# Altium schematic symbol library SRR1206-470YL.SchLib: 2 symbols
Pins are listed as number, name and electrical type; pins without a type are passive.

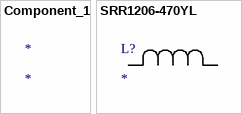
[diagram p0: symbols Component_1 to SRR1206-470YL]

## Component_1
designator *

## SRR1206-470YL
designator L?
No Description Available; Mfr_Name: Bourns Electronics
footprint IND_BOURNS_SRR1240
pins: 1, 2